# Altium schematic symbol library Components.SchLib: 11 symbols
Pins are listed as number, name and electrical type; pins without a type are passive.

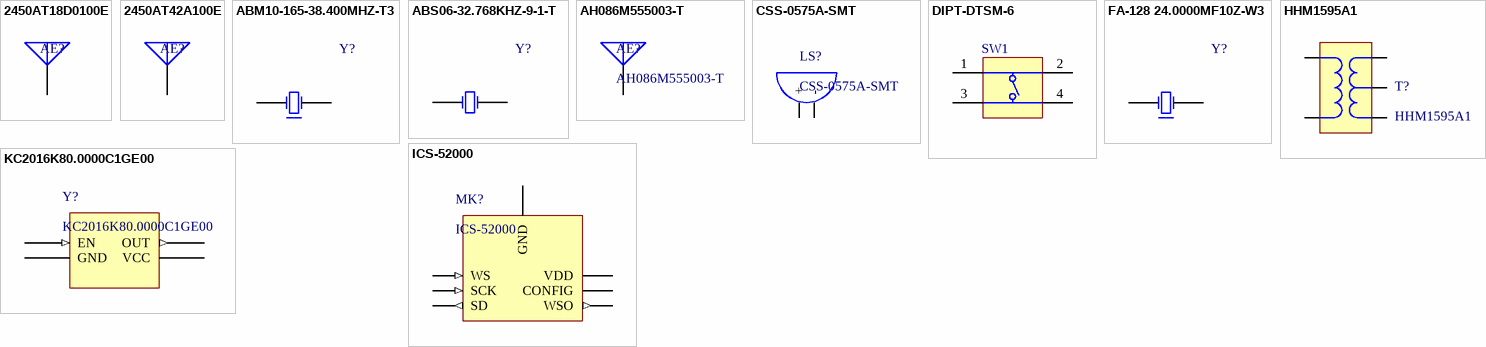
[diagram p0: symbols 2450AT18D0100E to KC2016K80.0000C1GE00]

## 2450AT18D0100E
designator AE?  (value not drawn)
Manufacturer: Johanson Technology Inc.; PartNumber: 2450AT18D0100E; Mounting Technology: Surface Mount
footprint ANTENNA
pins: 1

## 2450AT42A100E
designator AE?  (value not drawn)
Manufacturer: Johanson Technology Inc.; PartNumber: 2450AT42A100E; Mounting Technology: Surface Mount
footprint ANTENNA (3.2x1.6MM)
pins: 1

## ABM10-165-38.400MHZ-T3
designator Y?
PartNumber: ABM10-165-38.400MHZ-T3; Manufacturer: ABRACON; Mounting Technology: Surface Mount; PackageReference: 4-SMD; PackageDescription: 4-SMD, No Lead (DFN, LCC)
footprint ABRA-ABM10 (SMT Crystal, 4-Leads, Body 5.2x3.4mm)
pins: 1 X1, 2, 3 X2

## ABS06-32.768KHZ-9-1-T
designator Y?
PartNumber: ABS06-32.768KHZ-9-1-T; Manufacturer: Abracon; Mounting Technology: Surface Mount; PackageReference: 4-SMD
footprint CRYSTAL_2.0x1.2
pins: 1 X1, 2 X2

## AH086M555003-T
designator AE?
Manufacturer: Taiyo Yuden; PartNumber: AH086M555003-T; Mounting Technology: Surface Mount
footprint AH086M555003-T
pins: 1

## CSS-0575A-SMT
designator LS?
Magnetic Buzzer Transducer; Manufacturer: CUI, Inc.; PartNumber: CSS-0575A-SMT; Mounting Technology: Surface Mount; PackageReference: 5x5x1.9mm
footprint CSS-0575A-SMT
pins: 1 +, 2 -

## DIPT-DTSM-6
designator SW1
Switch, SPNO Push Button SMD; Manufacturer: C&K Components; PartNumber: PTS810 SJM 250 SMTR LFS; Packing Type: Tape&Reel; Mechanical Life: 200,000 cycles; ComponentLink2URL: http://www.dip.com.tw/Products_tact.htm; ComponentLink1URL: http://www.dip.com.tw/; ComponentLink3URL: http://www.dip.com.tw/PDF/pro_tact/DTSM_G_-6_2_-V.pdf; PackageDescription: Switch, Surface Mount, 4 Leads, Body 4.6x2.8mm, Height 1.9mm; ComponentLink2Description: Datasheet; ComponentLink3Description: Package Specification; ComponentLink1Description: Manufacturer URL; PackageReference: PTS810; Mounting Technology: Surface Mount
footprint SWITCH
pins: 1 T1, 2 T2, 3 T3, 4 T3

## FA-128 24.0000MF10Z-W3
designator Y?
PartNumber: FA-128 24.0000MF10Z-W3; Manufacturer: EPSON; Mounting Technology: Surface Mount; PackageReference: 4-SMD
footprint CRYSTAL_2.0x1.6
pins: 1 X1, 2, 3 X2

## HHM1595A1
designator T?
Manufacturer: TDK; PartNumber: HHM1595A1; PackageReference: 0805; Mounting Technology: Surface Mount
footprint HHM1595A1
pins: 1, 2, 3, 4, 5

## ICS-52000
designator MK?
MIC MEMS DIGITAL OMNI -26DB; Manufacturer: TDK InvenSense; PartNumber: ICS-52000; Mounting Technology: Surface Mount
footprint MIC
pins: 1 WSO (out), 2 CONFIG, 3 VDD (power), 4 GND (power), 5 WS (in), 6 SCK (in), 7 SD (out)

## KC2016K80.0000C1GE00
designator Y?
OSC XO 80.0000MHZ CMOS SMD; Manufacturer: AVX; PartNumber: KC2016K80.0000C1GE00; Mounting Technology: Surface Mount; PackageReference: SMD-4
footprint KC2016K
pins: 1 EN (in), 2 GND (power), 3 OUT (out), 4 VCC (power)